# Altium schematic symbol library RFM.SchLib: 1 symbol
Pins are listed as number, name and electrical type; pins without a type are passive.

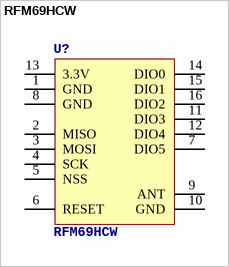
[diagram p0: symbol RFM69HCW]

## RFM69HCW
designator U?
footprint RFM69HCW-XXXS2
pins: 1 GND (power), 2 MISO, 3 MOSI, 4 SCK, 5 NSS, 6 RESET, 7 DIO5, 8 GND (power), 9 ANT, 10 GND (power), 11 DIO3, 12 DIO4, 13 3.3V (power), 14 DIO0, 15 DIO1, 16 DIO2